# Altium schematic symbol library Schlib.SchLib: 20 symbols
Pins are listed as number, name and electrical type; pins without a type are passive.

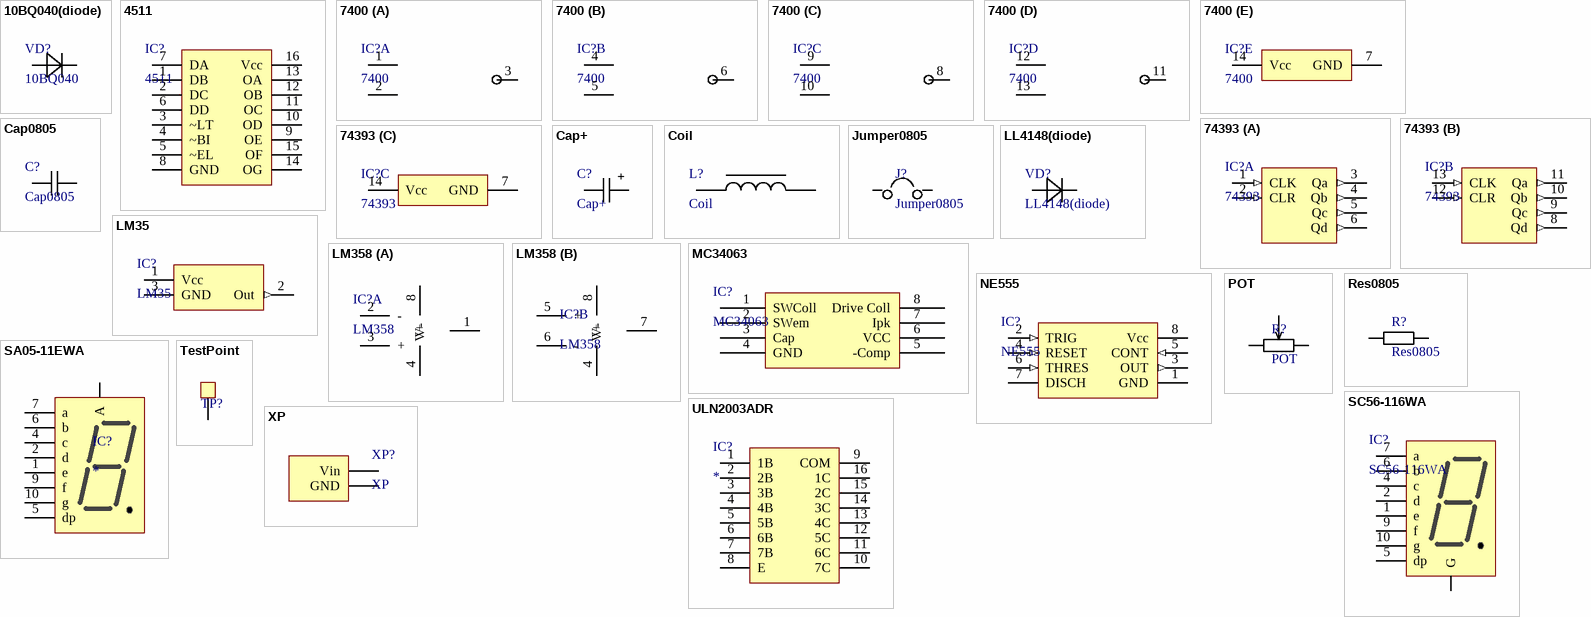
[diagram p0: symbols 10BQ040(diode) to XP]

## 10BQ040(diode)
designator VD?, comment 10BQ040
footprint DIODESMB (Molded Diode, 2-Leads, Body 4,40x3,55mm, IPC Medium Density)
pins: A, C

## 4511
designator IC?
footprint DIP16
pins: 1 DB, 2 DC, 3 ~LT, 4 ~BI, 5 ~EL, 6 DD, 7 DA, 8 GND, 9 OE, 10 OD, 11 OC, 12 OB, 13 OA, 14 OG, 15 OF, 16 Vcc

## 7400
designator IC?
footprint SOIC-14(3.9mm)
part A pins: 1 1A, 2 1B, 3 1Y
part B pins: 4 2A, 5 2B, 6 2Y
part C pins: 8 3Y, 9 3A, 10 3B
part D pins: 11 4Y, 12 4A, 13 4B
part E pins: 7 GND (power), 14 Vcc (power)

## 74393
designator IC?
footprint SOIC-14(3.9mm)
part A pins: 1 CLK (in), 2 CLR (in), 3 Qa (out), 4 Qb (out), 5 Qc (out), 6 Qd (out)
part B pins: 8 Qd (out), 9 Qc (out), 10 Qb (out), 11 Qa (out), 12 CLR (in), 13 CLK (in)
part C pins: 7 GND (power), 14 Vcc (power)

## Cap0805
designator C?
footprint CAP0805
pins: 1, 2

## Cap+
designator C?
footprint CAP-SMD-E
pins: A 2, C 1
text: +

## Coil
designator L?
footprint LQH55
pins: 1, 2

## Jumper0805
designator J?
footprint Jumper
footprint RES0805 (Chip Resistor, 2-Leads, Body 2,00x1,25mm, IPC Medium Density)
pins: 1, 2

## LL4148(diode)
designator VD?
footprint DIOMELF
pins: A, C

## LM35
designator IC?
footprint TO92
pins: 1 Vcc (power), 2 Out (out), 3 GND (power)

## LM358
designator IC?
footprint SOIC8
part A pins: 1 Q1, 2 -, 3 +, 4 V- (power), 8 V+ (power)
part B pins: 4 V- (power), 5 +, 6 -, 7 Q2, 8 V+ (power)

## MC34063
designator IC?
footprint SOIC8
pins: 1 SWColl, 2 SWem, 3 Cap, 4 GND (power), 5 -Comp, 6 VCC (power), 7 Ipk, 8 Drive Coll

## NE555
designator IC?
footprint SOIC8
pins: 1 GND (power), 2 TRIG (in), 3 OUT (out), 4 RESET (in), 5 CONT (in), 6 THRES (in), 7 DISCH, 8 Vcc (power)

## POT
designator R?
footprint POT
pins: 1, 2, 3

## Res0805
designator R?
footprint RES0805 (Chip Resistor, 2-Leads, Body 2,00x1,25mm, IPC Medium Density)
pins: 1, 2

## SA05-11EWA
designator IC?
footprint SA05-11EWA
pins: 1 e (power), 2 d (power), 4 c (power), 5 dp (power), 6 b (power), 7 a (power), 9 f (power), 10 g (power), A (power)

## SC56-116WA
designator IC?
footprint SC56-116WA
pins: 1 e (power), 2 d (power), 4 c (power), 5 dp (power), 6 b (power), 7 a (power), 9 f (power), 10 g (power), G (power)

## TestPoint
designator TP?  (value not drawn)
footprint TP
pins: 0

## ULN2003ADR
designator IC?
footprint SOIC16
pins: 1 1B, 2 2B, 3 3B, 4 4B, 5 5B, 6 6B, 7 7B, 8 E, 9 COM, 10 7C, 11 6C, 12 5C, 13 4C, 14 3C, 15 2C, 16 1C

## XP
designator XP?
footprint XP
footprint XP
pins: G GND (power), V Vin (power)